# Altium footprint library eByte.PcbLib: 1 footprints
Each footprint in its own frame and in the unit in brackets; x right, y up, seen from the top. Pads: shape width x height; smd on the part's side, far side on the other; paste and mask are expansions set on the pad; w line width, h text height; cw(c..) or ccw(c..) is an arc to the next point about the centre after c.
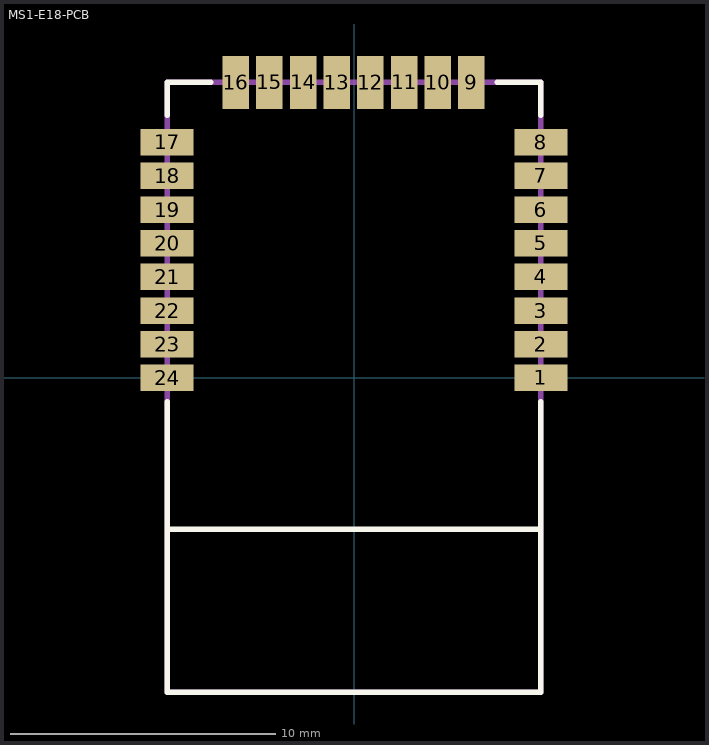
[diagram p0: the footprint, top view; thin cyan lines are the x and y axes]

## MS1-E18-PCB [mm] "MS1-E18-PCB module"
height 2.4
pads (24):
  rect 2x1 smd: 1(7.05,0) 2(7.05,1.27) 3(7.05,2.54) 4(7.05,3.81) 5(7.05,5.08) 6(7.05,6.35) 7(7.05,7.62) 8(7.05,8.89) 17(-7.05,8.89) 18(-7.05,7.62) 19(-7.05,6.35) 20(-7.05,5.08) 21(-7.05,3.81) 22(-7.05,2.54) 23(-7.05,1.27) 24(-7.05,0)
  rect 1x2 smd: 9(4.43,11.15) 10(3.16,11.15) 11(1.89,11.15) 12(0.62,11.15) 13(-0.65,11.15) 14(-1.92,11.15) 15(-3.19,11.15) 16(-4.46,11.15)
Top Overlay:
  lines w0.203: -7.05,-5.7 0,-5.7 7.05,-5.7 ; -7.05,-0.9 -7.05,-11.85 0,-11.85 7.05,-11.85 7.05,-0.9 ; -7.05,9.9 -7.05,11.15 -5.4,11.15 ; 5.4,11.15 7.05,11.15 7.05,9.9
Top Value:
  text ".Comment" at -1.8,1.2 h0.51
Top Assembly:
  lines w0.203: -7.05,-11.85 -7.05,11.15 7.05,11.15 7.05,-11.85 -7.05,-11.85
  text ".Designator" at -2.325,2.125 h0.51
3D body "e18-ms1-pcb.STEP": height 2.51, standoff 0.01, extent -7.1,-11.85 7.1,11.2